# Altium footprint library parts.PCBLIB: 25 footprints (part 1 of 2)
Each footprint in its own frame and in the unit in brackets; x right, y up, seen from the top. Pads: shape width x height; smd on the part's side, far side on the other; paste and mask are expansions set on the pad; w line width, h text height; cw(c..) or ccw(c..) is an arc to the next point about the centre after c.
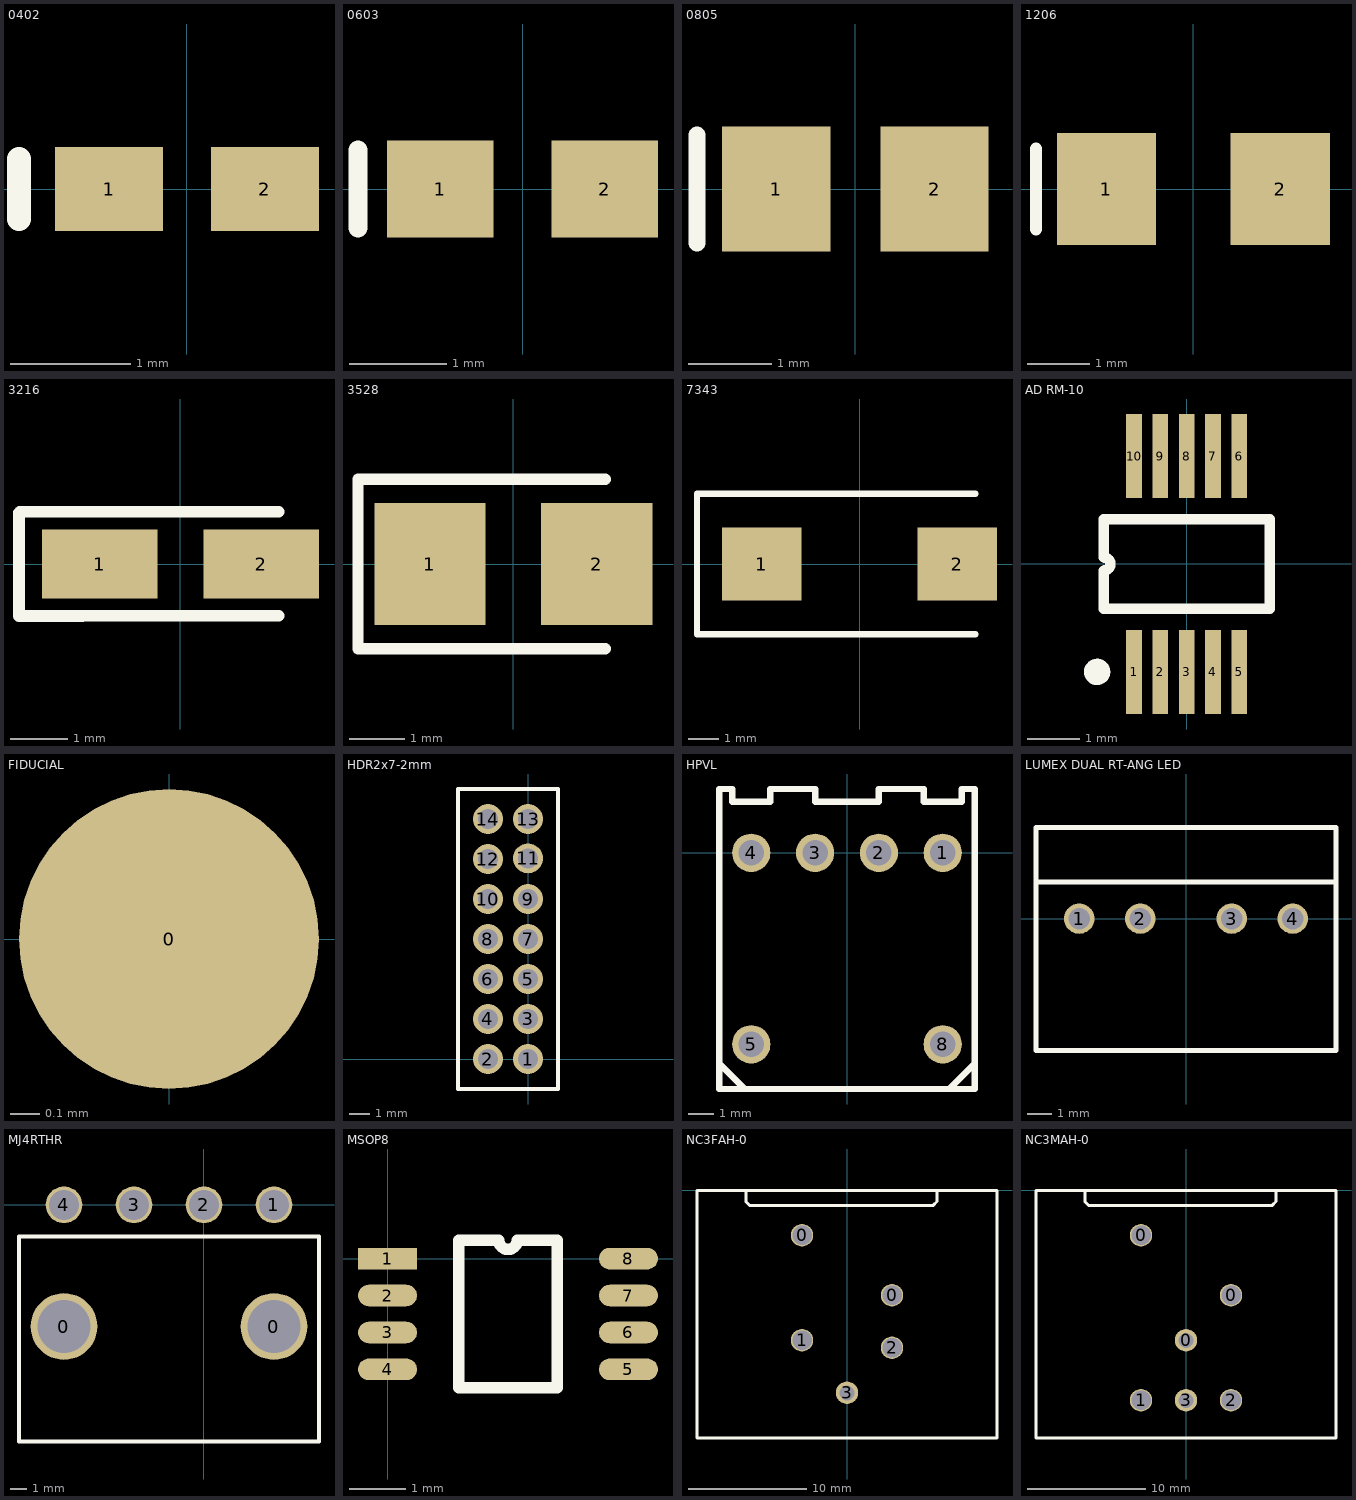
[diagram p0: the footprints below, top view; thin cyan lines are the x and y axes]

## 0402 [mm] "Standard-sized 0402 Passive"
pads (2):
  rect 0.9x0.7 smd: 1(-0.65,0) 2(0.65,0)
Top Overlay:
  lines w0.2: -1.4,-0.25 -1.4,0.25

## 0603 [mm] "Standard-sized 0603 Passive"
pads (2):
  rect 1.1x1 smd: 1(-0.85,0) 2(0.85,0)
Top Overlay:
  lines w0.2: -1.7,-0.4 -1.7,0.4

## 0805 [mm] "Standard-sized 0805 Passive"
pads (2):
  rect 1.3x1.5 smd: 1(-0.95,0) 2(0.95,0)
Top Overlay:
  lines w0.2: -1.9,-0.65 -1.9,0.65

## 1206 [mm] "Standard-sized 1206 Passive"
pads (2):
  rect 1.6x1.8 smd: 1(-1.4,0) 2(1.4,0)
Top Overlay:
  lines w0.2: -2.535,-0.65 -2.535,0.65

## 3216 [mm] "Standard-Sized 3216 Polarized Leadless Cap"
pads (2):
  rect 2x1.2 smd: 1(-1.4,0) 2(1.4,0)
Top Overlay:
  lines w0.2: -2.782,0.901 1.7,0.901 ; -1.7,-0.899 1.7,-0.899
  lines w0.203: -2.794,-0.899 -1.7,-0.899 ; -2.794,-0.889 -2.794,0.889 -2.782,0.901

## 3528 [mm] "Standard-Sized 3528 Polarized Leadless Cap"
pads (2):
  rect 2x2.2 smd: 1(-1.5,0) 2(1.5,0)
Top Overlay:
  lines w0.203: -2.794,-1.524 1.651,-1.524 ; -2.794,-1.5 -2.794,1.5 ; -2.794,1.524 1.651,1.524

## 7343 [mm] "Standard-Sized 7343 Polarized Leadless Cap"
pads (2):
  rect 2.6x2.4 smd: 1(-3.2,0) 2(3.2,0)
Top Overlay:
  lines w0.203: 3.8,-2.3 -5.32,-2.3 -5.32,2.3 3.8,2.3

## AD RM-10 [mm] "Shrink Small Outline; 10 Leads; Body Width 3 mm; Pitch 0.5 mm"
height 1.1
pads (10):
  rect 0.3x1.6 smd: 1(-1,-2.05) 2(-0.5,-2.05) 3(0,-2.05) 4(0.5,-2.05) 5(1,-2.05) 6(1,2.05) 7(0.5,2.05) 8(0,2.05) 9(-0.5,2.05) 10(-1,2.05)
Top Overlay:
  circle w0.25: c-1.7,-2.05 r0.125
  lines w0.2: -1.575,-0.85 -1.575,-0.125 ccw(c-1.575,0) -1.575,0.125 -1.575,0.85 1.575,0.85 1.575,-0.85 -1.575,-0.85

## FIDUCIAL [mil] "Fiducial footprint as recommended by PCBpro"
pads (1):
  round 40 smd paste-20 mask+30: 0(0,0)

## HDR2x7-2mm [mm]
pads (14):
  round 1.5 hole 1: 1(0,0) 2(-2,0) 3(0,2) 4(-2,2) 5(0,4) 6(-2,4) 7(0,6) 8(-2,6) 9(0,8) 10(-2,8) 11(0,10.033) 12(-2,10) 13(0,12) 14(-2,12)
Top Overlay:
  lines w0.2: -3.5,-1.5 -3.5,13.5 1.5,13.5 1.5,-1.5 -3.5,-1.5

## HPVL [mil]
pads (6):
  round 60 hole 40: 1(150,0) 2(50,0) 3(-50,0) 4(-150,0) 5(-150,-300) 8(150,-300)
Top Overlay:
  lines w10: -200,-340 -200,0 ; -200,-330 -160,-370 ; -200,-300 -200,-370 200,-370 200,-340 200,0 200,100 180,100 180,80 120,80 120,100 50,100 50,80 -50,80 -50,100 -120,100 -120,80 -180,80 -180,100 -200,100 -200,-10 ; 160,-370 200,-330

## LUMEX DUAL RT-ANG LED [mil] "Lumex Dual Right-angle LED holder for part SSF-LXH2100XX"
pads (4):
  round 50 hole 35: 1(-175.2,0) 2(-75,0) 3(75,0) 4(175.2,0)
Top Overlay:
  lines w8: -246.06,60 246.06,60 ; -246.06,-216.54 -246.06,149.61 246.06,149.61 246.06,-216.54 -246.06,-216.54

## MJ4RTHR [mm]
pads (6):
  round 4 hole 3.2: 0(-8.4,-7.3) 0(4.2,-7.3)
  round 2.2 hole 1.8: 1(4.2,0) 2(0,0) 3(-4.2,0) 4(-8.4,0)
Top Overlay:
  lines w0.254: -11.1,-14.2 -11.1,-1.9 6.9,-1.9 6.9,-14.2 -11.1,-14.2

## MSOP8 [mm]
pads (8):
  rect 1.04x0.38 smd: 1(0,0)
  oval 1.04x0.38 smd: 2(0,-0.65) 3(0,-1.3) 4(0,-1.95) 5(4.24,-1.95) 6(4.24,-1.3) 7(4.24,-0.65) 8(4.24,0)
Top Overlay:
  lines w0.203: 1.255,-2.275 2.985,-2.275 2.985,0.325 2.282,0.325 cw(c2.12,0.325) 1.957,0.325 1.255,0.325 1.255,-2.275

## NC3FAH-0 [mil] "Neutrik 3 pole female XLR receptacle, plastic housing, horizontal PCB mount."
pads (5):
  round 75 hole 65: 0(-150,-150) 0(150,-350) 1(-150,-500) 2(150,-525)
  round 75 hole 50: 3(0,-675)
Top Overlay:
  lines w10: -337.5,0 -337.5,-37.5 -325,-50 287.5,-50 300,-37.5 300,0 ; -500,-825 -500,0 500,0 500,-825 -500,-825

## NC3MAH-0 [mil] "Neutrik 3 pole male XLR receptacle, plastic housing, horizontal PCB mount."
pads (6):
  round 75 hole 65: 0(-150,-150) 0(150,-350) 1(-150,-700) 2(150,-700)
  round 75 hole 50: 0(0,-500) 3(0,-700)
Top Overlay:
  lines w10: -337.5,0 -337.5,-37.5 -325,-50 287.5,-50 300,-37.5 300,0 ; -500,-825 500,-825 500,0 -500,0 -500,-825